# Altium footprint library SOT-23-6L.PcbLib: 1 footprints
Each footprint in its own frame and in the unit in brackets; x right, y up, seen from the top. Pads: shape width x height; smd on the part's side, far side on the other; paste and mask are expansions set on the pad; w line width, h text height; cw(c..) or ccw(c..) is an arc to the next point about the centre after c.
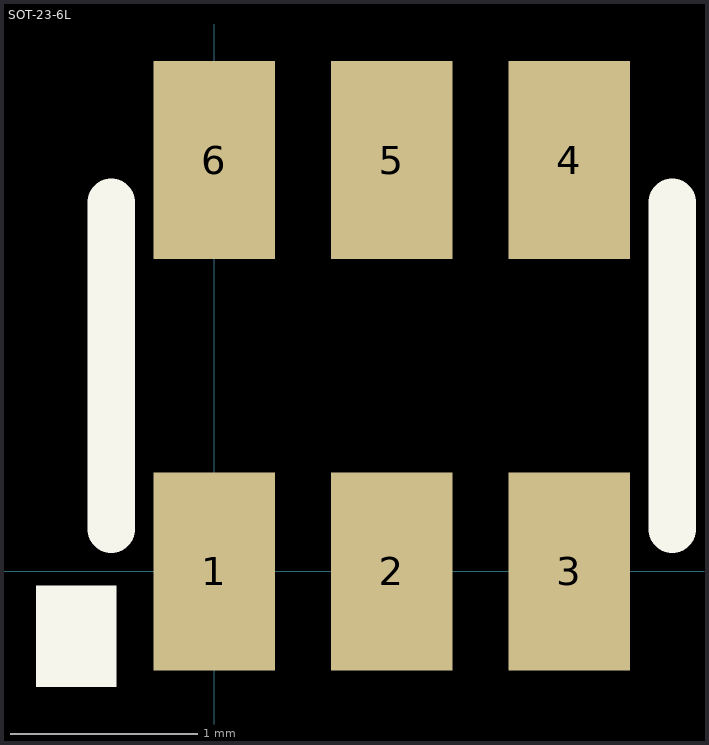
[diagram p0: the footprint, top view; thin cyan lines are the x and y axes]

## SOT-23-6L [mm]
height 3.048
pads (6):
  rect 0.65x1.06 smd: 1(0,0) 2(0.95,0) 3(1.9,0) 4(1.9,2.2) 5(0.95,2.2) 6(0,2.2)
TopOverlay:
  rectangle: -0.954,-0.618 -0.522,-0.075
  lines w0.254: -0.55,0.225 -0.55,1.975 ; 2.45,0.225 2.45,1.975
Mechanical4:
  text ".044" at 0,0 h0.03
3D body: height 1.45, standoff 0.15, extent -0.55,0.225 2.45,1.975